# Altium schematic symbol library LED_4PIN_CA1_BLU4_GRN3_RED2.SchLib: 1 symbol
Pins are listed as number, name and electrical type; pins without a type are passive.

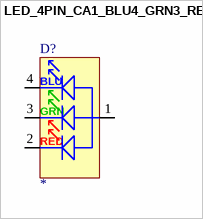
[diagram p0: symbol LED_4PIN_CA1_BLU4_GRN3_RED2]

## LED_4PIN_CA1_BLU4_GRN3_RED2
designator D?
pins: 1 GA, 2 RC, 3 GC, 4 BC
text: BLU; GRN; RED